# EAGLE library part OLED_0.96INCH (library Display)
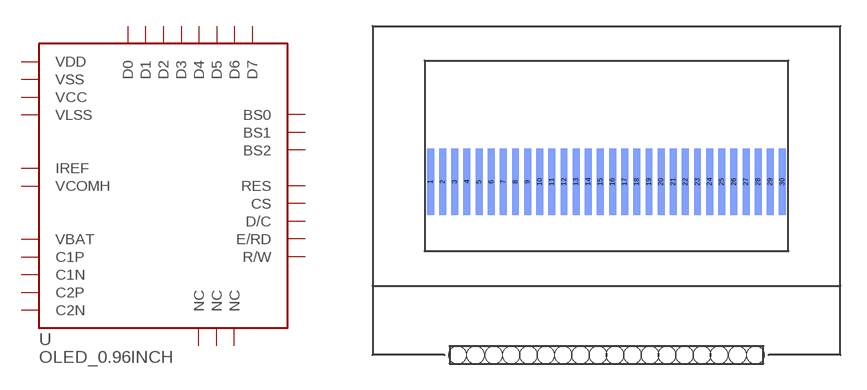
[diagram p14: symbol with the pads of OLED_0.96INCH; footprint OLED_0.96INCH]

Designator prefix -

## OLED_0.96INCH  [OLED_0.96INCH]
1  NC
2  C2P
3  C2N
4  C1P
5  C1N
6  VBAT
7  NC
8  VSS
9  VDD
10  BS0
11  BS1
12  BS2
13  CS
14  RES
15  D/C
16  R/W
17  E/RD
18  D0
19  D1
20  D2
21  D3
22  D4
23  D5
24  D6
25  D7
26  IREF
27  VCOMH
28  VCC
29  VLSS
30  NC

## Footprint OLED_0.96INCH (pad centres in mm)
smd 0.4 x 3.81 bottom: 1 -10.15,0; 2 -9.45,0; 3 -8.75,0; 4 -8.05,0; 5 -7.35,0; 6 -6.65,0; 7 -5.95,0; 8 -5.25,0; 9 -4.55,0; 10 -3.85,0; 11 -3.15,0; 12 -2.45,0; 13 -1.75,0; 14 -1.05,0; 15 -0.35,0; 16 0.35,0; 17 1.05,0; 18 1.75,0; 19 2.45,0; 20 3.15,0; 21 3.85,0; 22 4.55,0; 23 5.25,0; 24 5.95,0; 25 6.65,0; 26 7.35,0; 27 8.05,0; 28 8.75,0; 29 9.45,0; 30 10.15,0
hole 1 at -5.5,-10
hole 1 at 5.5,-10
hole 1 at -6.5,-10
hole 1 at -4.5,-10
hole 1 at -3.5,-10
hole 1 at -2.5,-10
hole 1 at -1.5,-10
hole 1 at -0.5,-10
hole 1 at 0.5,-10
hole 1 at 1.5,-10
hole 1 at 2.5,-10
hole 1 at 3.5,-10
hole 1 at 4.5,-10
hole 1 at 6.5,-10
hole 1 at -7.55,-10
hole 1 at 7.55,-10
hole 1 at 8.6,-10
hole 1 at -8.6,-10